# EAGLE library part GANZ-CONNECTOR (library ganzlib)
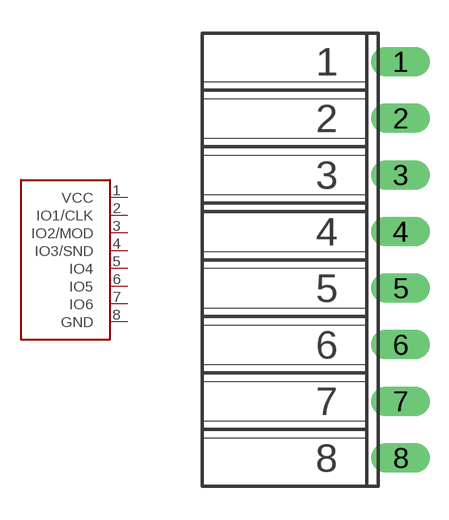
[diagram p2: symbol with the pads of FE08W; footprint FE08W]

Designator prefix -

## GANZ-CONNECTOR  [FE08W]
1  VCC
2  IO1/CLK
3  IO2/MOD
4  IO3/SND
5  IO4
6  IO5
7  IO6
8  GND

## Footprint FE08W (pad centres in mm)
FEMALE HEADER
drill 0.813 long: 1 5.08,8.89; 2 5.08,6.35; 3 5.08,3.81; 4 5.08,1.27; 5 5.08,-1.27; 6 5.08,-3.81; 7 5.08,-6.35; 8 5.08,-8.89